# Altium footprint library PCB - POWER - TI-TLVM13640.PcbLib: 1 footprints
Each footprint in its own frame and in the unit in brackets; x right, y up, seen from the top. Pads: shape width x height; smd on the part's side, far side on the other; paste and mask are expansions set on the pad; w line width, h text height; cw(c..) or ccw(c..) is an arc to the next point about the centre after c.
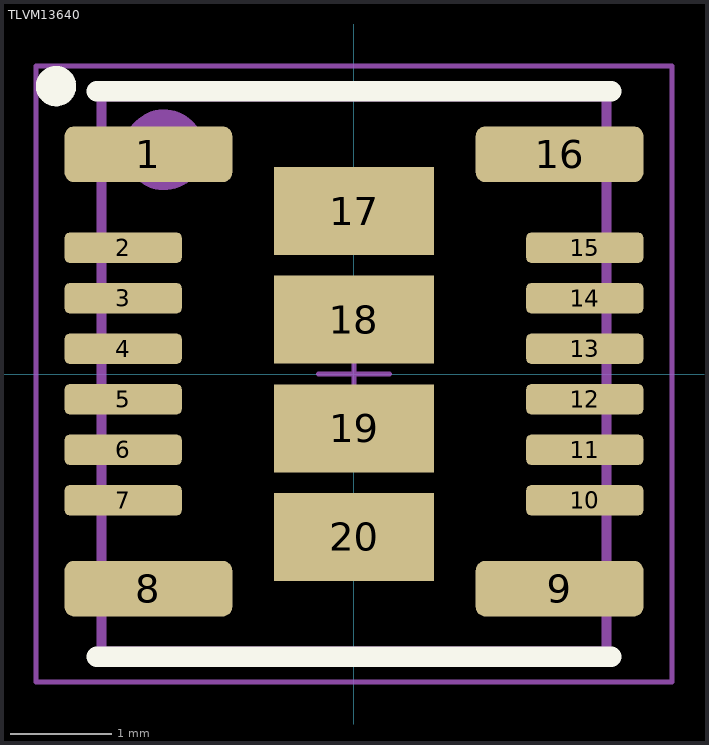
[diagram p0: the footprint, top view; thin cyan lines are the x and y axes]

## TLVM13640 [mm]
height 4.1
pads (20):
  rrect33% 1.66x0.55 smd: 1(-2.035,2.175) 8(-2.035,-2.125) 9(2.035,-2.125) 16(2.035,2.175)
  rrect33% 1.16x0.3 smd: 2(-2.285,1.25) 3(-2.285,0.75) 4(-2.285,0.25) 5(-2.285,-0.25) 6(-2.285,-0.75) 7(-2.285,-1.25) 10(2.285,-1.25) 11(2.285,-0.75) 12(2.285,-0.25) 13(2.285,0.25) 14(2.285,0.75) 15(2.285,1.25)
  rect 1.58x0.87 smd paste-1.58 mask+0: 17(0,1.613) 18(0,0.538) 19(0,-0.538) 20(0,-1.613)
Top Overlay:
  circle w0.2: c-2.95,2.85 r0.1
  lines w0.2: -2.55,-2.8 2.55,-2.8 ; -2.55,2.8 2.55,2.8
Top Paste:
  region: 0.055,-1.887 0.055,-1.337 0.685,-1.337 0.685,-1.887
  region: -0.685,-1.887 -0.685,-1.337 -0.055,-1.337 -0.055,-1.887
  region: 0.055,-0.812 0.055,-0.262 0.685,-0.262 0.685,-0.812
  region: -0.685,-0.812 -0.685,-0.262 -0.055,-0.262 -0.055,-0.812
  region: 0.055,0.262 0.055,0.812 0.685,0.812 0.685,0.262
  region: -0.685,0.262 -0.685,0.812 -0.055,0.812 -0.055,0.262
  region: 0.055,1.337 0.055,1.887 0.685,1.887 0.685,1.337
  region: -0.685,1.337 -0.685,1.887 -0.055,1.887 -0.055,1.337
Assembly Top:
  circle w0.4: c-1.88,2.22 r0.2
  lines w0.1: -2.5,-2.75 2.5,-2.75 2.5,2.75 -2.5,2.75 -2.5,-2.75
  text ".Designator" at 0,0 h1
Courtyard Top:
  lines w0.05: -0.35,0 0.35,0 ; 0,-0.35 0,0.35 ; -3.15,-3.05 3.15,-3.05 3.15,3.05 -3.15,3.05 -3.15,-3.05
3D body: height 4.11, standoff 0.01, extent -2.179,1.92 -1.58,2.518
3D body: height 4.1, standoff 0, extent -2.5,-2.75 2.5,2.75